# Altium integrated library 61301221021.IntLib: 2 symbols
Pins are listed as number, name and electrical type; pins without a type are passive.

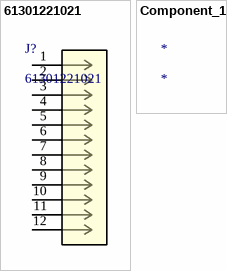
[diagram p0: symbols 61301221021 to Component_1]

## 61301221021
designator J?
No Description Available; Mfr_Name: Wurth Electronics; Copyright: Copyright (C) 2022 Ultra Librarian. All rights reserved.; Manufacturer_Part_Number: 61301221021; RefDes: RefDes; Type: DEV
footprint CONN_61301221021_WRE
pins: 1, 2, 3, 4, 5, 6, 7, 8, 9, 10, 11, 12

## Component_1
designator *